# EAGLE library part AMPHENOL_USB_C_VERTICAL_RECEPTACLE (library amphenol_usb)
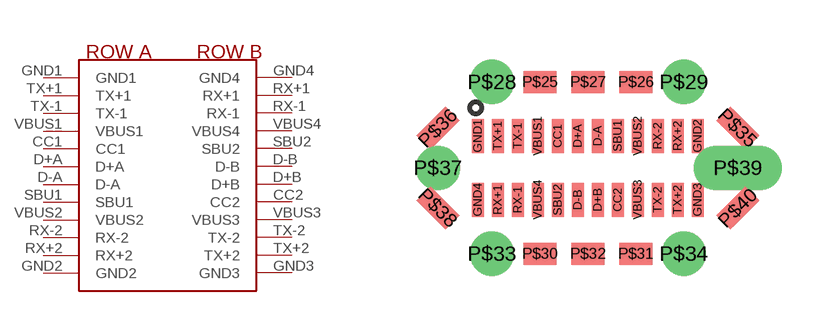
[diagram p0: symbol with the pads of AMPHENOL_USB_C_VERTICAL_RECEPTACLE; footprint AMPHENOL_USB_C_VERTICAL_RECEPTACLE]

Designator prefix -

## AMPHENOL_USB_C_VERTICAL_RECEPTACLE  [AMPHENOL_USB_C_VERTICAL_RECEPTACLE]
CC1  CC1
CC2  CC2
D+A  D+A
D+B  D+B
D-A  D-A
D-B  D-B
GND1  GND1
GND2  GND2
GND3  GND3
GND4  GND4
RX+1  RX+1
RX+2  RX+2
RX-1  RX-1
RX-2  RX-2
SBU1  SBU1
SBU2  SBU2
TX+1  TX+1
TX+2  TX+2
TX-1  TX-1
TX-2  TX-2
VBUS1  VBUS1
VBUS2  VBUS2
VBUS3  VBUS3
VBUS4  VBUS4

## Footprint AMPHENOL_USB_C_VERTICAL_RECEPTACLE (pad centres in mm)
smd 0.3 x 0.85: CC1 -0.75,0.8; CC2 0.75,-0.8; D+A -0.25,0.8; D+B 0.25,-0.8; D-A 0.25,0.8; D-B -0.25,-0.8; GND1 -2.75,0.8; GND2 2.75,0.8; GND3 2.75,-0.8; GND4 -2.75,-0.8; RX+1 -2.25,-0.8; RX+2 2.25,0.8; RX-1 -1.75,-0.8; RX-2 1.75,0.8; SBU1 0.75,0.8; SBU2 -0.75,-0.8; TX+1 -2.25,0.8; TX+2 2.25,-0.8; TX-1 -1.75,0.8; TX-2 1.75,-0.8; VBUS1 -1.25,0.8; VBUS2 1.25,0.8; VBUS3 1.25,-0.8; VBUS4 -1.25,-0.8
smd 0.82 x 0.55: P$25 -1.2,2.15; P$26 1.2,2.15; P$27 0,2.15; P$30 -1.2,-2.15; P$31 1.2,-2.15; P$32 0,-2.15
drill 0.6 pad 0.7: P$28 -2.4,2.15; P$29 2.4,2.15; P$33 -2.4,-2.15; P$34 2.4,-2.15
smd 1.03 x 0.5 rotated 135: P$35 3.75,1; P$38 -3.75,-1
smd 1.03 x 0.5 rotated 45: P$36 -3.75,1; P$40 3.75,-1
drill 0.6 pad 0.66: P$37 -3.75,0
drill 0.6 pad 0.58 long: P$39 3.75,0